# Altium footprint library PcbLib1.PcbLib: 4 footprints
Each footprint in its own frame and in the unit in brackets; x right, y up, seen from the top. Pads: shape width x height; smd on the part's side, far side on the other; paste and mask are expansions set on the pad; w line width, h text height; cw(c..) or ccw(c..) is an arc to the next point about the centre after c.
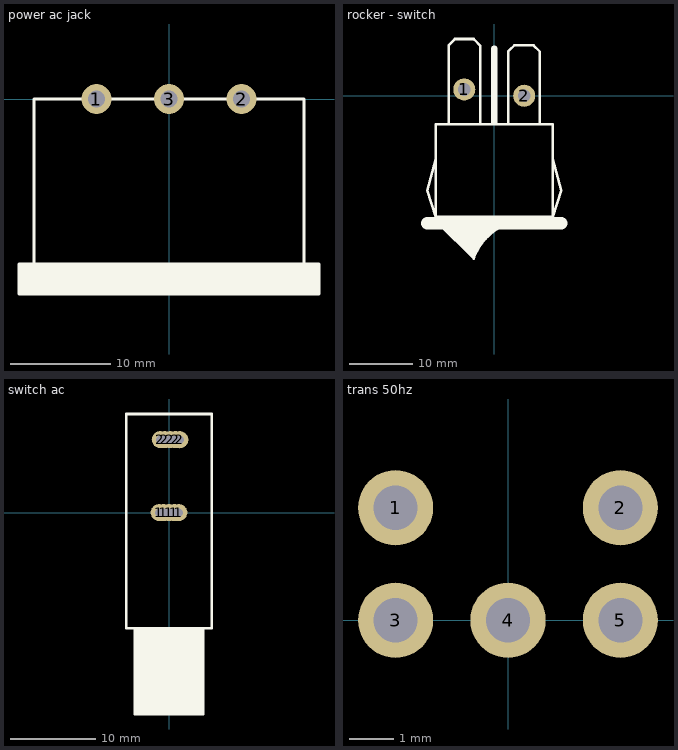
[diagram p0: the footprints below, top view; thin cyan lines are the x and y axes]

## power ac jack [mm]
pads (3):
  round 3 hole 1.7: 1(-7.25,0) 2(7.25,0) 3(0,0)
Top Overlay:
  rectangle: -15,-19.5 15,-16.5
  lines w0.3: 13.5,-16.53 13.5,0 -13.5,0 -13.5,-16.5 13.5,-16.5 ; -15,-19.5 15,-19.5 15,-16.5 -15,-16.5 -15,-19.5

## rocker - switch [mm]
pads (2):
  round 3.5 hole 2: 1(-4.75,1) 2(4.75,0)
Top Overlay:
  region: -8.255,-20.574 -8.255,-20.828 -3.238,-25.845 -3.048,-25.654 -3.048,-25.146 -2.54,-24.638 -2.54,-24.257 -1.905,-23.622 -1.905,-23.241 -1.778,-23.241 -0.508,-21.971 -0.381,-21.971 0.381,-21.209 0.508,-21.209 0.508,-21.082 0.889,-20.701 0.889,-20.574
  lines w0.254: -3.239,-25.844 cw(c5.588,-29.146) 8.89,-20.32
  lines w0.4: -9.3,-10 -10.65,-15 -9.3,-19.2 ; -9.144,-20.32 -9.144,-20.193 -8.89,-20.193 -3.238,-25.845 ; -9.144,-19.939 -9.017,-19.939 ; -7.25,-4.5 -7.25,8 ; -7.245,7.995 -6.24,9 -3.285,9 -3.175,8.89 -2.25,7.965 -2.25,-4.5 ; 2.25,-4.5 2.25,7.076 2.413,7.239 3.175,8.001 ; 3.25,8 6.224,8 7.25,6.974 7.25,-4.5 ; 9.3,-10 10.65,-15 9.3,-19.2 ; -9.3,-19.2 -9.3,-4.5 9.3,-4.5 9.3,-19.2 ; -9.3,-19.2 9.3,-19.2
  lines w1: 0,-4.2 0,7.5
  lines w2: -10.65,-20.2 10.65,-20.2

## switch ac [mm]
pads (10):
  round 2 hole 1: 1(-1.143,0) 1(-0.635,0) 1(0,0) 1(0.635,0) 1(1.143,0) 2(-1.016,8.509) 2(-0.508,8.509) 2(0.127,8.509) 2(0.762,8.509) 2(1.27,8.5)
Top Overlay:
  rectangle: -4,-23.5 4,-13.5
  lines w0.3: -4,-13.5 -4,-23.5 4,-23.5 4,-13.5 ; -5,-13.5 5,-13.5 5,11.5 -5,11.5 -5,-13.5

## trans 50hz [mm]
pads (5):
  round 1.7 hole 1: 1(-2.54,2.54) 2(2.54,2.54) 3(-2.54,0) 4(0,0) 5(2.54,0)